# EAGLE library part COLIBRI (library toradex)
Toradex Colibri single board with PXA270
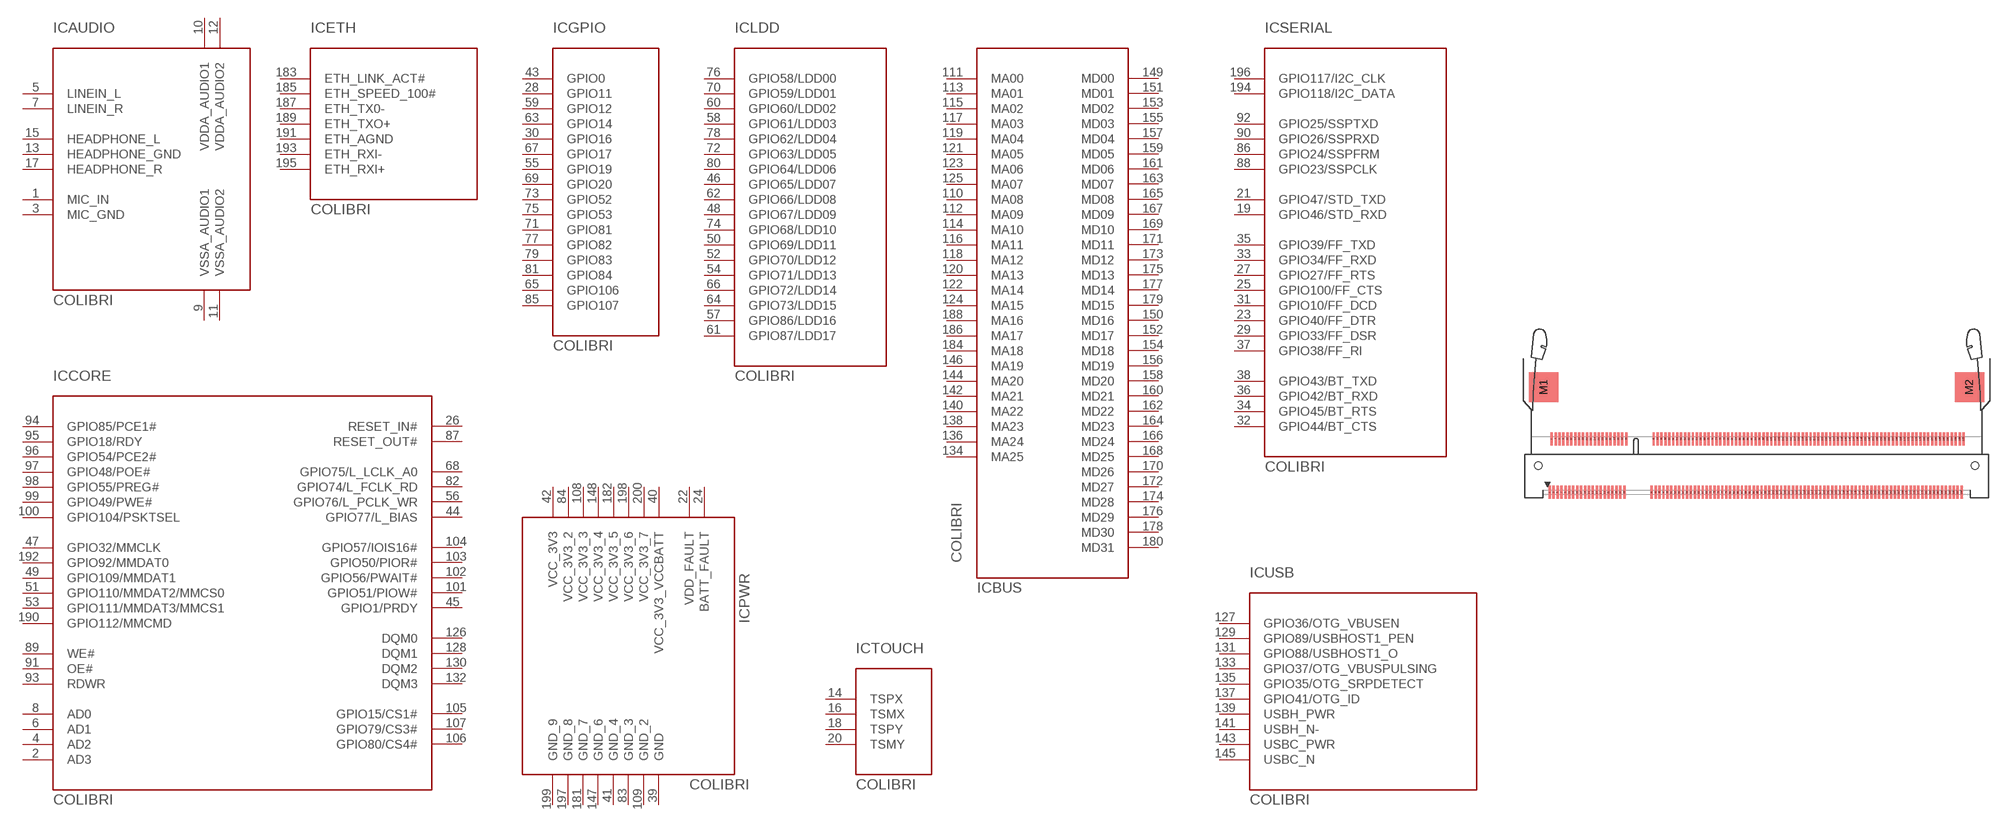
[diagram p0: symbol with the pads of 1-1376408-1; footprint 1-1376408-1]

Designator prefix IC; gates AUDIO=COLIBRI-AUDIO BUS=COLIBRI-BUS CORE=COLIBRI-CORE ETH=COLIBRI-ETH GPIO=COLIBRI-GPIO LDD=COLIBRI-LDD PWR=COLIBRI-PWR SERIAL=COLIBRI-SERIAL TOUCH=COLIBRI-TOUCH USB=COLIBRI-USB

## COLIBRI  [1-1376408-1]
1  AUDIO:MIC_IN
2  CORE:AD3
3  AUDIO:MIC_GND
4  CORE:AD2
5  AUDIO:LINEIN_L
6  CORE:AD1
7  AUDIO:LINEIN_R
8  CORE:AD0
9  AUDIO:VSSA_AUDIO1
10  AUDIO:VDDA_AUDIO1
11  AUDIO:VSSA_AUDIO2
12  AUDIO:VDDA_AUDIO2
13  AUDIO:HEADPHONE_GND
14  TOUCH:TSPX
15  AUDIO:HEADPHONE_L
16  TOUCH:TSMX
17  AUDIO:HEADPHONE_R
18  TOUCH:TSPY
19  SERIAL:GPIO46/STD_RXD
20  TOUCH:TSMY
21  SERIAL:GPIO47/STD_TXD
22  PWR:VDD_FAULT
23  SERIAL:GPIO40/FF_DTR
24  PWR:BATT_FAULT
25  SERIAL:GPIO100/FF_CTS
26  CORE:RESET_IN#
27  SERIAL:GPIO27/FF_RTS
28  GPIO:GPIO11
29  SERIAL:GPIO33/FF_DSR
30  GPIO:GPIO16
31  SERIAL:GPIO10/FF_DCD
32  SERIAL:GPIO44/BT_CTS
33  SERIAL:GPIO34/FF_RXD
34  SERIAL:GPIO45/BT_RTS
35  SERIAL:GPIO39/FF_TXD
36  SERIAL:GPIO42/BT_RXD
37  SERIAL:GPIO38/FF_RI
38  SERIAL:GPIO43/BT_TXD
39  PWR:GND
40  PWR:VCC_3V3_VCCBATT
41  PWR:GND_4
42  PWR:VCC_3V3
43  GPIO:GPIO0
44  CORE:GPIO77/L_BIAS
45  CORE:GPIO1/PRDY
46  LDD:GPIO65/LDD07
47  CORE:GPIO32/MMCLK
48  LDD:GPIO67/LDD09
49  CORE:GPIO109/MMDAT1
50  LDD:GPIO69/LDD11
51  CORE:GPIO110/MMDAT2/MMCS0
52  LDD:GPIO70/LDD12
53  CORE:GPIO111/MMDAT3/MMCS1
54  LDD:GPIO71/LDD13
55  GPIO:GPIO19
56  CORE:GPIO76/L_PCLK_WR
57  LDD:GPIO86/LDD16
58  LDD:GPIO61/LDD03
59  GPIO:GPIO12
60  LDD:GPIO60/LDD02
61  LDD:GPIO87/LDD17
62  LDD:GPIO66/LDD08
63  GPIO:GPIO14
64  LDD:GPIO73/LDD15
65  GPIO:GPIO106
66  LDD:GPIO72/LDD14
67  GPIO:GPIO17
68  CORE:GPIO75/L_LCLK_A0
69  GPIO:GPIO20
70  LDD:GPIO59/LDD01
71  GPIO:GPIO81
72  LDD:GPIO63/LDD05
73  GPIO:GPIO52
74  LDD:GPIO68/LDD10
75  GPIO:GPIO53
76  LDD:GPIO58/LDD00
77  GPIO:GPIO82
78  LDD:GPIO62/LDD04
79  GPIO:GPIO83
80  LDD:GPIO64/LDD06
81  GPIO:GPIO84
82  CORE:GPIO74/L_FCLK_RD
83  PWR:GND_3
84  PWR:VCC_3V3_2
85  GPIO:GPIO107
86  SERIAL:GPIO24/SSPFRM
87  CORE:RESET_OUT#
88  SERIAL:GPIO23/SSPCLK
89  CORE:WE#
90  SERIAL:GPIO26/SSPRXD
91  CORE:OE#
92  SERIAL:GPIO25/SSPTXD
93  CORE:RDWR
94  CORE:GPIO85/PCE1#
95  CORE:GPIO18/RDY
96  CORE:GPIO54/PCE2#
97  CORE:GPIO48/POE#
98  CORE:GPIO55/PREG#
99  CORE:GPIO49/PWE#
100  CORE:GPIO104/PSKTSEL
101  CORE:GPIO51/PIOW#
102  CORE:GPIO56/PWAIT#
103  CORE:GPIO50/PIOR#
104  CORE:GPIO57/IOIS16#
105  CORE:GPIO15/CS1#
106  CORE:GPIO80/CS4#
107  CORE:GPIO79/CS3#
108  PWR:VCC_3V3_3
109  PWR:GND_2
110  BUS:MA08
111  BUS:MA00
112  BUS:MA09
113  BUS:MA01
114  BUS:MA10
115  BUS:MA02
116  BUS:MA11
117  BUS:MA03
118  BUS:MA12
119  BUS:MA04
120  BUS:MA13
121  BUS:MA05
122  BUS:MA14
123  BUS:MA06
124  BUS:MA15
125  BUS:MA07
126  CORE:DQM0
127  USB:GPIO36/OTG_VBUSEN
128  CORE:DQM1
129  USB:GPIO89/USBHOST1_PEN
130  CORE:DQM2
131  USB:GPIO88/USBHOST1_O
132  CORE:DQM3
133  USB:GPIO37/OTG_VBUSPULSING
134  BUS:MA25
135  USB:GPIO35/OTG_SRPDETECT
136  BUS:MA24
137  USB:GPIO41/OTG_ID
138  BUS:MA23
139  USB:USBH_PWR
140  BUS:MA22
141  USB:USBH_N-
142  BUS:MA21
143  USB:USBC_PWR
144  BUS:MA20
145  USB:USBC_N
146  BUS:MA19
147  PWR:GND_6
148  PWR:VCC_3V3_4
149  BUS:MD00
150  BUS:MD16
151  BUS:MD01
152  BUS:MD17
153  BUS:MD02
154  BUS:MD18
155  BUS:MD03
156  BUS:MD19
157  BUS:MD04
158  BUS:MD20
159  BUS:MD05
160  BUS:MD21
161  BUS:MD06
162  BUS:MD22
163  BUS:MD07
164  BUS:MD23
165  BUS:MD08
166  BUS:MD24
167  BUS:MD09
168  BUS:MD25
169  BUS:MD10
170  BUS:MD26
171  BUS:MD11
172  BUS:MD27
173  BUS:MD12
174  BUS:MD28
175  BUS:MD13
176  BUS:MD29
177  BUS:MD14
178  BUS:MD30
179  BUS:MD15
180  BUS:MD31
181  PWR:GND_7
182  PWR:VCC_3V3_5
183  ETH:ETH_LINK_ACT#
184  BUS:MA18
185  ETH:ETH_SPEED_100#
186  BUS:MA17
187  ETH:ETH_TX0-
188  BUS:MA16
189  ETH:ETH_TXO+
190  CORE:GPIO112/MMCMD
191  ETH:ETH_AGND
192  CORE:GPIO92/MMDAT0
193  ETH:ETH_RXI-
194  SERIAL:GPIO118/I2C_DATA
195  ETH:ETH_RXI+
196  SERIAL:GPIO117/I2C_CLK
197  PWR:GND_8
198  PWR:VCC_3V3_6
199  PWR:GND_9
200  PWR:VCC_3V3_7

## Footprint 1-1376408-1 (pad centres in mm)
DDR1 SODIMM SOCKET 0.6mm Pitch 200 Pos. Connector for Kontron X-Board 1.8V Source: http://catalog.tycoelectronics.com ... JPN_CD_1376408_S.pdf
smd 0.35 x 2: 1 -32.65,-4.1; 2 -32.35,4.1; 3 -32.05,-4.1; 4 -31.75,4.1; 5 -31.45,-4.1; 6 -31.15,4.1; 7 -30.85,-4.1; 8 -30.55,4.1; 9 -30.25,-4.1; 10 -29.95,4.1; 11 -29.65,-4.1; 12 -29.35,4.1; 13 -29.05,-4.1; 14 -28.75,4.1; 15 -28.45,-4.1; 16 -28.15,4.1; 17 -27.85,-4.1; 18 -27.55,4.1; 19 -27.25,-4.1; 20 -26.95,4.1; 21 -26.65,-4.1; 22 -26.35,4.1; 23 -26.05,-4.1; 24 -25.75,4.1; 25 -25.45,-4.1; 26 -25.15,4.1; 27 -24.85,-4.1; 28 -24.55,4.1; 29 -24.25,-4.1; 30 -23.95,4.1; 31 -23.65,-4.1; 32 -23.35,4.1; 33 -23.05,-4.1; 34 -22.75,4.1; 35 -22.45,-4.1; 36 -22.15,4.1; 37 -21.85,-4.1; 38 -21.55,4.1; 39 -21.25,-4.1; 40 -20.95,4.1; 41 -17.05,-4.1; 42 -16.75,4.1; 43 -16.45,-4.1; 44 -16.15,4.1; 45 -15.85,-4.1; 46 -15.55,4.1; 47 -15.25,-4.1; 48 -14.95,4.1; 49 -14.65,-4.1; 50 -14.35,4.1; 51 -14.05,-4.1; 52 -13.75,4.1; 53 -13.45,-4.1; 54 -13.15,4.1; 55 -12.85,-4.1; 56 -12.55,4.1; 57 -12.25,-4.1; 58 -11.95,4.1; 59 -11.65,-4.1; 60 -11.35,4.1; 61 -11.05,-4.1; 62 -10.75,4.1; 63 -10.45,-4.1; 64 -10.15,4.1; 65 -9.85,-4.1; 66 -9.55,4.1; 67 -9.25,-4.1; 68 -8.95,4.1; 69 -8.65,-4.1; 70 -8.35,4.1; 71 -8.05,-4.1; 72 -7.75,4.1; 73 -7.45,-4.1; 74 -7.15,4.1; 75 -6.85,-4.1; 76 -6.55,4.1; 77 -6.25,-4.1; 78 -5.95,4.1; 79 -5.65,-4.1; 80 -5.35,4.1; 81 -5.05,-4.1; 82 -4.75,4.1; 83 -4.45,-4.1; 84 -4.15,4.1; 85 -3.85,-4.1; 86 -3.55,4.1; 87 -3.25,-4.1; 88 -2.95,4.1; 89 -2.65,-4.1; 90 -2.35,4.1; 91 -2.05,-4.1; 92 -1.75,4.1; 93 -1.45,-4.1; 94 -1.15,4.1; 95 -0.85,-4.1; 96 -0.55,4.1; 97 -0.25,-4.1; 98 0.05,4.1; 99 0.35,-4.1; 100 0.65,4.1; 101 0.95,-4.1; 102 1.25,4.1; 103 1.55,-4.1; 104 1.85,4.1; 105 2.15,-4.1; 106 2.45,4.1; 107 2.75,-4.1; 108 3.05,4.1; 109 3.35,-4.1; 110 3.65,4.1; 111 3.95,-4.1; 112 4.25,4.1; 113 4.55,-4.1; 114 4.85,4.1; 115 5.15,-4.1; 116 5.45,4.1; 117 5.75,-4.1; 118 6.05,4.1; 119 6.35,-4.1; 120 6.65,4.1; 121 6.95,-4.1; 122 7.25,4.1; 123 7.55,-4.1; 124 7.85,4.1; 125 8.15,-4.1; 126 8.45,4.1; 127 8.75,-4.1; 128 9.05,4.1; 129 9.35,-4.1; 130 9.65,4.1; 131 9.95,-4.1; 132 10.25,4.1; 133 10.55,-4.1; 134 10.85,4.1; 135 11.15,-4.1; 136 11.45,4.1; 137 11.75,-4.1; 138 12.05,4.1; 139 12.35,-4.1; 140 12.65,4.1; 141 12.95,-4.1; 142 13.25,4.1; 143 13.55,-4.1; 144 13.85,4.1; 145 14.15,-4.1; 146 14.45,4.1; 147 14.75,-4.1; 148 15.05,4.1; 149 15.35,-4.1; 150 15.65,4.1; 151 15.95,-4.1; 152 16.25,4.1; 153 16.55,-4.1; 154 16.85,4.1; 155 17.15,-4.1; 156 17.45,4.1; 157 17.75,-4.1; 158 18.05,4.1; 159 18.35,-4.1; 160 18.65,4.1; 161 18.95,-4.1; 162 19.25,4.1; 163 19.55,-4.1; 164 19.85,4.1; 165 20.15,-4.1; 166 20.45,4.1; 167 20.75,-4.1; 168 21.05,4.1; 169 21.35,-4.1; 170 21.65,4.1; 171 21.95,-4.1; 172 22.25,4.1; 173 22.55,-4.1; 174 22.85,4.1; 175 23.15,-4.1; 176 23.45,4.1; 177 23.75,-4.1; 178 24.05,4.1; 179 24.35,-4.1; 180 24.65,4.1; 181 24.95,-4.1; 182 25.25,4.1; 183 25.55,-4.1; 184 25.85,4.1; 185 26.15,-4.1; 186 26.45,4.1; 187 26.75,-4.1; 188 27.05,4.1; 189 27.35,-4.1; 190 27.65,4.1; 191 27.95,-4.1; 192 28.25,4.1; 193 28.55,-4.1; 194 28.85,4.1; 195 29.15,-4.1; 196 29.45,4.1; 197 29.75,-4.1; 198 30.05,4.1; 199 30.35,-4.1; 200 30.65,4.1
smd 4.5 x 4.6: M1 -33.55,12; M2 31.55,12
hole 1.1 at -34.4,0
hole 1.1 at 32.4,0